# Altium schematic symbol library SkyPulseUAV.SchLib: 18 symbols
Pins are listed as number, name and electrical type; pins without a type are passive.

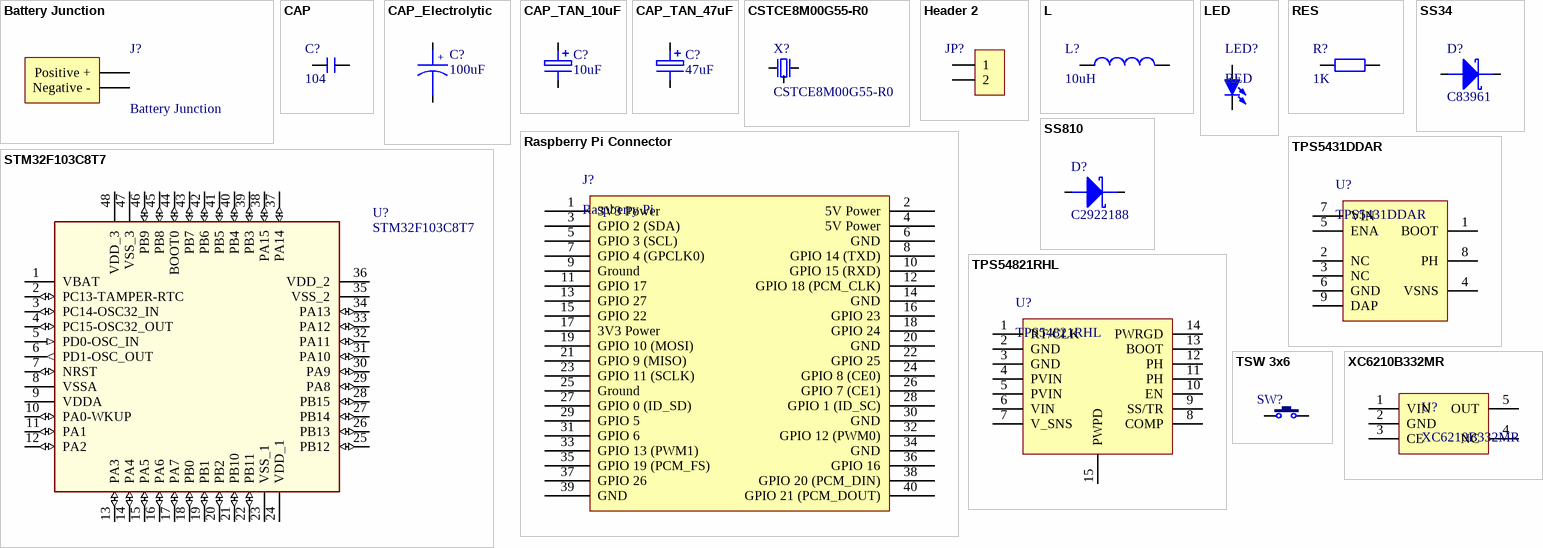
[diagram p0: symbols Battery Junction to XC6210B332MR]

## Battery Junction
designator J?
7.4V, 2S1P, 38.48Wh, 80C, 5200mAh
pins: 1 Positive +, 2 Negative -

## CAP
designator C?, comment 104
SMD Capacitor
footprint C 0805_M (无极性贴片电容)
footprint C 0603_M (无极性贴片电容)
pins: 1, 2

## CAP_Electrolytic
designator C?, comment 100uF
SMD Aluminum Electrolytic Capacitors
footprint CM D(6.3*7.7) (贴片电解电容，直径6.3mm，高7.7mm)
pins: 1, 2
text: +

## CAP_TAN_10uF
designator C?, comment 10uF
Tantalum capacitor, 10uF, 16V, CA45A-B-16V-10uF-K
footprint CD B(3528) (长3.5mm，宽2.8mm，厚1.9mm)
pins: 1, 2 E

## CAP_TAN_47uF
designator C?, comment 47uF
Tantalum capacitor, 47uF, 16V, CA45-D-16V-47μF-K
footprint CD D(7343) (长7.3mm，宽4.3mm，厚2.8mm)
pins: 1, 2 E

## CSTCE8M00G55-R0
designator X?
Crystal Oscillator CSTCE8M00G55-R0
footprint CSTCE_G
pins: 1, 2 GND, 3

## Header 2
designator JP?, comment HDR-1X2  (value not drawn)
2P Jumper
footprint HDR2.54-LI-2P (排针，2脚)
pins: 1, 2

## L
designator L?, comment 10uH
Inductance
footprint CD54 (5.8*5.2*4.5mm（长宽高）)
pins: 1, 2

## LED
designator LED?, comment RED
SMD LED Red
footprint LED 0805B (蓝色0805LED)
footprint LED 0805G (绿色0805LED)
footprint LED 0805R (红色0805LED)
pins: 1 A, 2 K

## Raspberry Pi Connector
designator J?, comment Raspberry Pi
Raspberry Pi Connector, 40P
footprint HDR2.54-LI-2x20P (双排排针，20x2脚)
pins: 1 3V3 Power, 2 5V Power, 3 GPIO 2 (SDA), 4 5V Power, 5 GPIO 3 (SCL), 6 GND, 7 GPIO 4 (GPCLK0), 8 GPIO 14 (TXD), 9 Ground, 10 GPIO 15 (RXD), 11 GPIO 17, 12 GPIO 18 (PCM_CLK), 13 GPIO 27, 14 GND, 15 GPIO 22, 16 GPIO 23, 17 3V3 Power, 18 GPIO 24, 19 GPIO 10 (MOSI), 20 GND, 21 GPIO 9 (MISO), 22 GPIO 25, 23 GPIO 11 (SCLK), 24 GPIO 8 (CE0), 25 Ground, 26 GPIO 7 (CE1), 27 GPIO 0 (ID_SD), 28 GPIO 1 (ID_SC), 29 GPIO 5, 30 GND, 31 GPIO 6, 32 GPIO 12 (PWM0), 33 GPIO 13 (PWM1), 34 GND, 35 GPIO 19 (PCM_FS), 36 GPIO 16, 37 GPIO 26, 38 GPIO 20 (PCM_DIN), 39 GND, 40 GPIO 21 (PCM_DOUT)

## RES
designator R?, comment 1K
SMD Resistor
footprint R 0805_M (1/8W贴片电阻)
footprint R 0201-HP_L (1/20W高精度贴片电阻)
footprint R 0201_L (1/20W贴片电阻)
footprint R 0201-HP_M (1/20W高精度贴片电阻)
footprint R 0201_M (1/20W贴片电阻)
footprint R 0402-HP_L (1/16W高精度贴片电阻)
footprint R 0402-HP_M (1/16W高精度贴片电阻)
footprint R 0402_L (1/16W贴片电阻)
footprint R 0402_M (1/16W贴片电阻)
footprint R 0603_M (1/10W贴片电阻)
pins: 1, 2

## SS34
designator D?, comment C83961
SURFACE MOUNT SCHOTTKY BARRIER RECTIFIER
footprint SMA (4.5x2.6*2.2mm（长宽高，不包括引脚）)
pins: 1, 2

## SS810
designator D?, comment C2922188
SURFACE MOUNT SCHOTTKY BARRIER RECTIFIER, 8A
footprint SMB (4.7*3.9*2.2mm(长宽高，不包括引脚）)
pins: 1, 2

## STM32F103C8T7
designator U?
footprint LQFP48_L
pins: 1 VBAT (power), 2 PC13-TAMPER-RTC (io), 3 PC14-OSC32_IN (io), 4 PC15-OSC32_OUT (io), 5 PD0-OSC_IN (in), 6 PD1-OSC_OUT (out), 7 NRST (io), 8 VSSA (power), 9 VDDA (power), 10 PA0-WKUP (io), 11 PA1 (io), 12 PA2 (io), 13 PA3 (io), 14 PA4 (io), 15 PA5 (io), 16 PA6 (io), 17 PA7 (io), 18 PB0 (io), 19 PB1 (io), 20 PB2 (io), 21 PB10 (io), 22 PB11 (io), 23 VSS_1 (power), 24 VDD_1 (power), 25 PB12 (io), 26 PB13 (io), 27 PB14 (io), 28 PB15 (io), 29 PA8 (io), 30 PA9 (io), 31 PA10 (io), 32 PA11 (io), 33 PA12 (io), 34 PA13 (io), 35 VSS_2 (power), 36 VDD_2 (power), 37 PA14 (io), 38 PA15 (io), 39 PB3 (io), 40 PB4 (io), 41 PB5 (io), 42 PB6 (io), 43 PB7 (io), 44 BOOT0 (io), 45 PB8 (io), 46 PB9 (io), 47 VSS_3 (power), 48 VDD_3 (power)

## TPS5431DDAR
designator U?
TPS543x 3A, Wide Input Range, Step-Down Converter
footprint ESOP8_M (5*6*1.8mm（长宽高）)
pins: 1 BOOT, 2 NC, 3 NC, 4 VSNS, 5 ENA, 6 GND, 7 VIN, 8 PH, 9 DAP

## TPS54821RHL
designator U?
4.5 V to 17 V Input, 8 A Synchronous Step Down Converter With Hiccup
pins: 1 RT/CLK, 2 GND, 3 GND, 4 PVIN, 5 PVIN, 6 VIN, 7 V_SNS, 8 COMP, 9 SS/TR, 10 EN, 11 PH, 12 PH, 13 BOOT, 14 PWRGD, 15 PWPD

## TSW 3x6
designator SW?, comment 3x6x5  (value not drawn)
Switch
pins: 1, 2

## XC6210B332MR
designator U?
800mA, 25uA, Higt PSRR Voltage Regulator
footprint SOT23-5L (3x1.6x1.1mm(长宽高))
pins: 1 VIN, 2 GND, 3 CE, 4 NC, 5 OUT